# EAGLE library part SP491ECN-L (library exar)
5V 14-pin NSOIC Low power differential line receiver Source: Datasheet <https://www.maxlinear.com/ds/sp490e_sp491e.pdf>
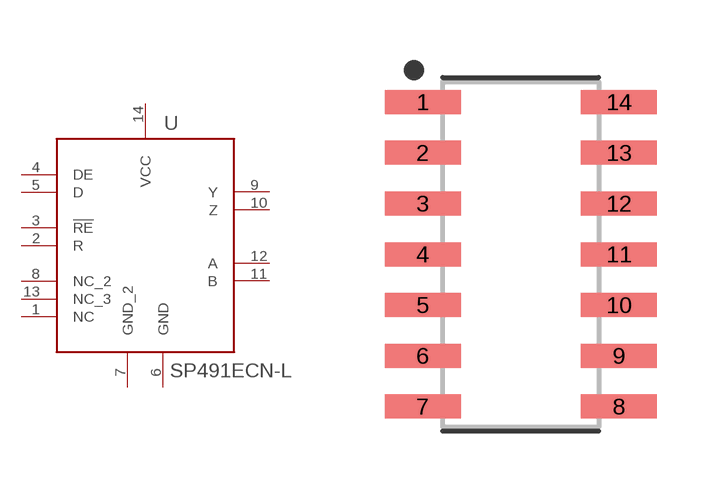
[diagram p88: symbol with the pads of SOIC127P600X144-14; footprint SOIC127P600X144-14]

Designator prefix -

## SP491ECN-L (MPN: SP491ECN-L; SUPPLIER: MaxLinear, Inc.)  [SOIC127P600X144-14]
1  NC  nc
2  R  out
3  !RE  in
4  DE  in
5  D  in
6  GND  pas
7  GND_2  pas
8  NC_2  nc
9  Y  out
10  Z  out
11  B  in
12  A  in
13  NC_3  nc
14  VCC  pwr

## Footprint SOIC127P600X144-14 (pad centres in mm)
14-SOIC, 1.27 mm pitch, 6.00 mm span, 8.65 X 3.90 X 1.44 mm body 14-pin SOIC package with 1.27 mm pitch, 6.00 mm span with body size 8.65 X 3.90 X 1.44 mm
smd 1.901 x 0.599: 1 -2.455,3.81; 2 -2.455,2.54; 3 -2.455,1.27; 4 -2.455,0; 5 -2.455,-1.27; 6 -2.455,-2.54; 7 -2.455,-3.81; 8 2.455,-3.81; 9 2.455,-2.54; 10 2.455,-1.27; 11 2.455,0; 12 2.455,1.27; 13 2.455,2.54; 14 2.455,3.81